# EAGLE library part DIODE_TVS_ARRAY-8CH (library FlashPCB_CircuitProtection)
ESD-PROT-ARRAY-8CH - 8-Channel ESD Protection Array Technical Specifications: ESD PROTECTION: ±8 kV per the IEC 61000−4−2 standard Component Search: CM1213-08MR <https://www.flashpcb.com/components> Datasheet: 6 and 8-Channel Low Capacitance ESD Protection Arrays <https://www.onsemi.com/pdf/datasheet/cm1213-d.pdf>
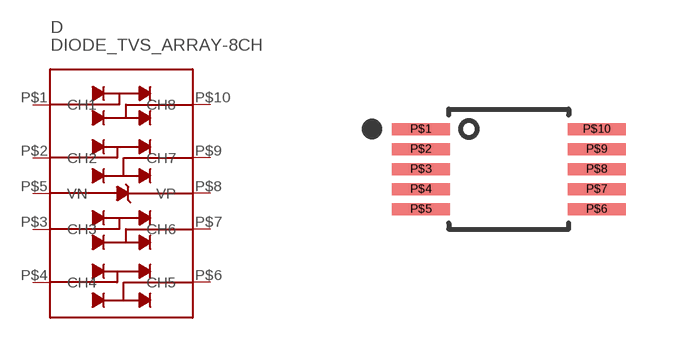
[diagram p0: symbol with the pads of 10-VSSOP; footprint 10-VSSOP]

Designator prefix D

## DIODE_TVS_ARRAY-8CH10-MSOP  [10-VSSOP]
P$1  CH1
P$2  CH2
P$3  CH3
P$4  CH4
P$5  VN
P$6  CH5
P$7  CH6
P$8  VP
P$9  CH7
P$10  CH8

## Footprint 10-VSSOP (pad centres in mm)
smd 1.45 x 0.3: P$1 -2.2,1; P$2 -2.2,0.5; P$3 -2.2,0; P$4 -2.2,-0.5; P$5 -2.2,-1; P$6 2.2,-1; P$7 2.2,-0.5; P$8 2.2,0; P$9 2.2,0.5; P$10 2.2,1